# Altium schematic symbol library MICRON-MT28F400B5WG-8TET.schlib: 1 symbol
Pins are listed as number, name and electrical type; pins without a type are passive.

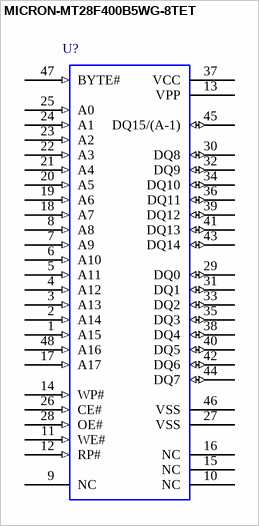
[diagram p0: symbol MICRON-MT28F400B5WG-8TET]

## MICRON-MT28F400B5WG-8TET
designator U?  (value not drawn)
4Mb SMART 5 BOOT BLOCK FLASH MEMORY; CircuitryPartsPN: MICRON-MT28F400B5WG-8TET; ManufacturerPN: MT28F400B5WG-8TET; Manufacturer: Micron Technology Inc; CategoryI: Integrated Circuits (ICs); CategoryII: NOR FLASH MEMORY; SchematicRev: A; DesignedBy: Circuitry Parts; MfgURL: http://www.micron.com/; PackageName: TSOP48; FootprintName: *; Value: *; DesignedOn: 7/18/2005 3:14:31 PM
pins: 1 A15 (in), 2 A14 (in), 3 A13 (in), 4 A12 (in), 5 A11 (in), 6 A10 (in), 7 A9 (in), 8 A8 (in), 9 NC, 10 NC, 11 WE# (in), 12 RP# (in), 13 VPP (power), 14 WP# (in), 15 NC, 16 NC, 17 A17 (in), 18 A7 (in), 19 A6 (in), 20 A5 (in), 21 A4 (in), 22 A3 (in), 23 A2 (in), 24 A1 (in), 25 A0 (in), 26 CE# (in), 27 VSS (power), 28 OE# (in), 29 DQ0 (io), 30 DQ8 (io), 31 DQ1 (io), 32 DQ9 (io), 33 DQ2 (io), 34 DQ10 (io), 35 DQ3 (io), 36 DQ11 (io), 37 VCC (power), 38 DQ4 (io), 39 DQ12 (io), 40 DQ5 (io), 41 DQ13 (io), 42 DQ6 (io), 43 DQ14 (io), 44 DQ7 (io), 45 DQ15/(A-1) (io), 46 VSS (power), 47 BYTE# (in), 48 A16 (in)